# EAGLE library part 2064VET44 (library lattice)
LATTICE PROGRAMMABLE DEVICE Source: http://www.latticesemi.com/lit/docs/datasheets/cpld/2064v.pdf / 2064ve.pdf
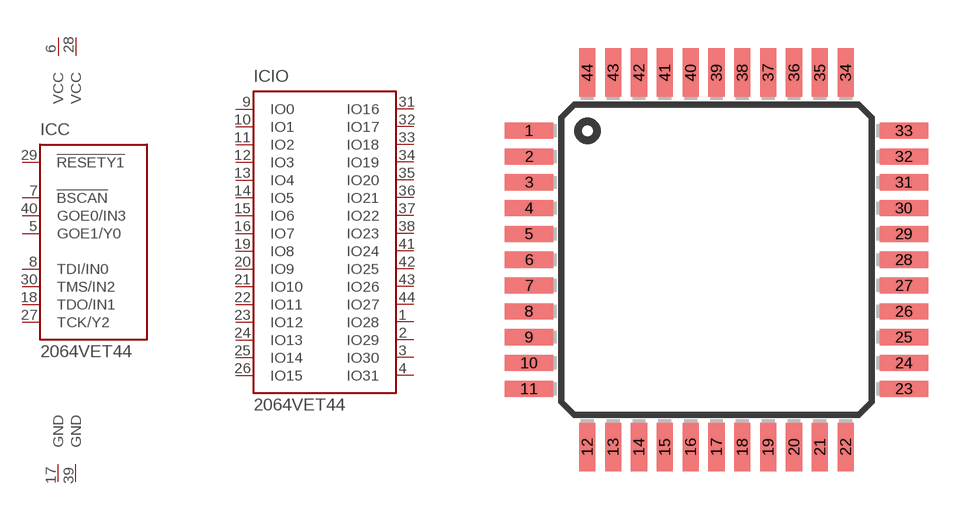
[diagram p5: symbol with the pads of TQFP44; footprint TQFP44]

Designator prefix IC; gates IO=LSI2032 V1=VCC V2=VCC G1=GND G2=GND C=LSI2064C

## 2064VET44 (OC_FARNELL: unknown; OC_NEWARK: unknown)  [TQFP44]
1  IO:IO28
2  IO:IO29
3  IO:IO30
4  IO:IO31
5  C:GOE1/Y0  in
6  V1:VCC  pwr
7  C:!BSCAN  in
8  C:TDI/IN0  in
9  IO:IO0
10  IO:IO1
11  IO:IO2
12  IO:IO3
13  IO:IO4
14  IO:IO5
15  IO:IO6
16  IO:IO7
17  G1:GND  pwr
18  C:TDO/IN1  in
19  IO:IO8
20  IO:IO9
21  IO:IO10
22  IO:IO11
23  IO:IO12
24  IO:IO13
25  IO:IO14
26  IO:IO15
27  C:TCK/Y2  in
28  V2:VCC  pwr
29  C:!RESETY1  in
30  C:TMS/IN2  in
31  IO:IO16
32  IO:IO17
33  IO:IO18
34  IO:IO19
35  IO:IO20
36  IO:IO21
37  IO:IO22
38  IO:IO23
39  G2:GND  pwr
40  C:GOE0/IN3  in
41  IO:IO24
42  IO:IO25
43  IO:IO26
44  IO:IO27

## Footprint TQFP44 (pad centres in mm)
Thin Quad Flat Package
smd 1.5 x 0.5: 1 -5.8,4; 2 -5.8,3.2; 3 -5.8,2.4; 4 -5.8,1.6; 5 -5.8,0.8; 6 -5.8,0; 7 -5.8,-0.8; 8 -5.8,-1.6; 9 -5.8,-2.4; 10 -5.8,-3.2; 11 -5.8,-4; 23 5.8,-4; 24 5.8,-3.2; 25 5.8,-2.4; 26 5.8,-1.6; 27 5.8,-0.8; 28 5.8,0; 29 5.8,0.8; 30 5.8,1.6; 31 5.8,2.4; 32 5.8,3.2; 33 5.8,4
smd 0.5 x 1.5: 12 -4,-5.8; 13 -3.2,-5.8; 14 -2.4,-5.8; 15 -1.6,-5.8; 16 -0.8,-5.8; 17 0,-5.8; 18 0.8,-5.8; 19 1.6,-5.8; 20 2.4,-5.8; 21 3.2,-5.8; 22 4,-5.8; 34 4,5.8; 35 3.2,5.8; 36 2.4,5.8; 37 1.6,5.8; 38 0.8,5.8; 39 0,5.8; 40 -0.8,5.8; 41 -1.6,5.8; 42 -2.4,5.8; 43 -3.2,5.8; 44 -4,5.8